# Altium footprint library Power_Board_Parts_Library.PcbLib: 12 footprints
Each footprint in its own frame and in the unit in brackets; x right, y up, seen from the top. Pads: shape width x height; smd on the part's side, far side on the other; paste and mask are expansions set on the pad; w line width, h text height; cw(c..) or ccw(c..) is an arc to the next point about the centre after c.
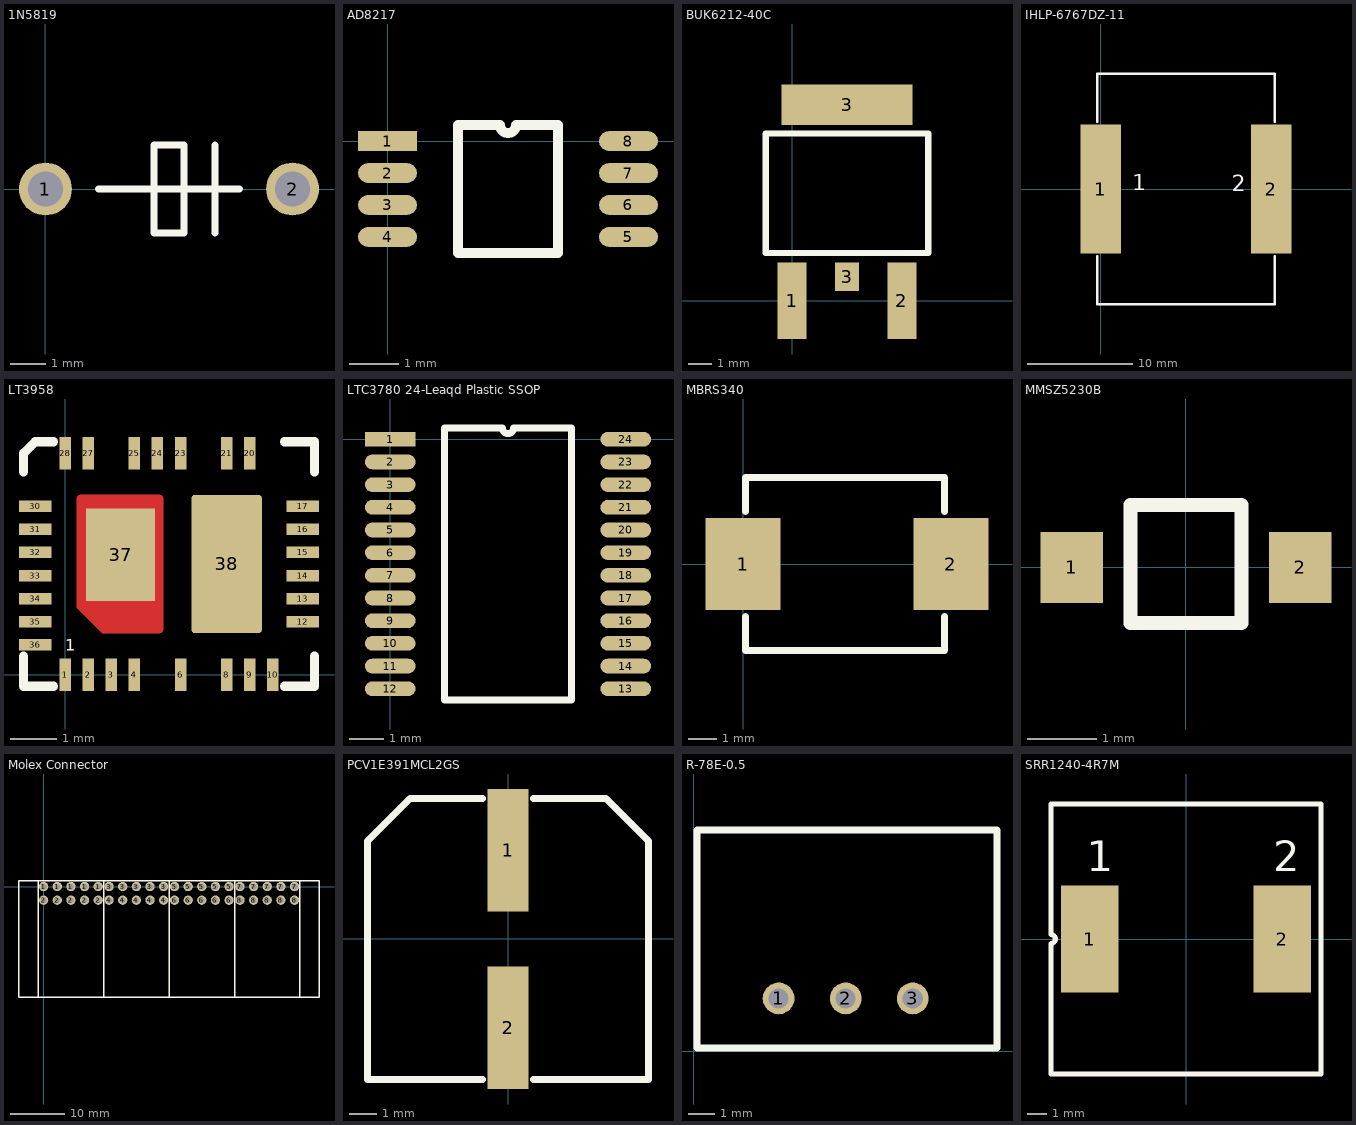
[diagram p0: the footprints below, top view; thin cyan lines are the x and y axes]

## 1N5819 [mm]
pads (2):
  round 1.5 hole 1: 1(0,0) 2(7,0)
Top Overlay:
  lines w0.2: 1.5,0 3.925,0 ; 3.075,0 5.5,0 ; 4.808,-1.25 4.808,1.25 ; 3.925,0 3.925,1.25 3.075,1.25 3.075,-1.25 3.925,-1.25 3.925,0

## AD8217 [mm]
pads (8):
  rect 1.2x0.4 smd: 1(0,0)
  oval 1.2x0.4 smd: 2(0,-0.65) 3(0,-1.3) 4(0,-1.95) 5(4.9,-1.95) 6(4.9,-1.3) 7(4.9,-0.65) 8(4.9,0)
Top Overlay:
  lines w0.2: 1.435,-2.275 3.465,-2.275 3.465,0.325 2.612,0.325 cw(c2.45,0.325) 2.288,0.325 1.435,0.325 1.435,-2.275

## BUK6212-40C [mm]
pads (4):
  rect 1.2x3.2 smd: 1(0,0) 2(4.6,0)
  rect 1x1.2 smd: 3(2.3,1)
  rect 5.5x1.7 smd: 3(2.3,8.2)
Top Overlay:
  lines w0.254: -1.1,2 5.7,2 5.7,7 -1.1,7 -1.1,2

## IHLP-6767DZ-11 [mm]
pads (2):
  rect 3.825x12.32 smd: 1(0,0) 2(16.25,0)
Top Overlay:
  lines w0.254: -0.33,-6.39 -0.33,-10.97 16.57,-10.97 16.57,-6.39 ; -0.33,6.39 -0.33,10.97 16.57,10.97 16.57,6.39
  text "1" at 3,-0.13 h1.52
  text "2" at 12.47,-0.2 h1.52

## LT3958 [mm]
pads (30):
  rect 0.25x0.7 smd mask+0.085: 1(0,0)
  rect 0.25x0.7 smd: 2(0.5,0) 3(1,0) 4(1.5,0) 6(2.5,0) 8(3.5,0) 9(4,0) 10(4.5,0) 20(4,4.8) 21(3.5,4.8) 23(2.5,4.8) 24(2,4.8) 25(1.5,4.8) 27(0.5,4.8) 28(0,4.8)
  rect 0.7x0.25 smd: 12(5.15,1.15) 13(5.15,1.65) 14(5.15,2.15) 15(5.15,2.65) 16(5.15,3.15) 17(5.15,3.65) 30(-0.65,3.65) 31(-0.65,3.15) 32(-0.65,2.65) 33(-0.65,2.15) 34(-0.65,1.65) 35(-0.65,1.15)
  rect 0.7x0.25 smd mask+0.085: 36(-0.65,0.65)
  rect 1.5x2 smd: 37(1.2,2.6)
  rrect10% 1.53x3 smd paste+0: 38(3.5,2.4)
Top Layer:
  region: 0.25,1.45 0.25,3.8 0.25,3.82 0.265,3.857 0.293,3.885 0.33,3.9 0.35,3.9 2.025,3.9 2.045,3.9 2.082,3.885 2.11,3.857 2.125,3.82 2.125,3.8 2.125,1 2.125,0.98 2.11,0.943 2.082,0.915 2.045,0.9 2.025,0.9 0.8,0.9
Top Overlay:
  lines w0.2: -0.9,0.4 -0.9,-0.25 -0.25,-0.25 ; -0.9,4.4 -0.9,4.8 -0.65,5.05 -0.25,5.05 ; 4.75,-0.25 5.4,-0.25 5.4,0.4 ; 4.75,5.05 5.4,5.05 5.4,4.4
  text "1" at 0,0.525 h0.25

## LTC3780 24-Leaqd Plastic SSOP [mm]
pads (24):
  rect 1.45x0.42 smd: 1(0,0)
  oval 1.45x0.42 smd: 2(0,-0.65) 3(0,-1.3) 4(0,-1.95) 5(0,-2.6) 6(0,-3.25) 7(0,-3.9) 8(0,-4.55) 9(0,-5.2) 10(0,-5.85) 11(0,-6.5) 12(0,-7.15) 13(6.75,-7.15) 14(6.75,-6.5) 15(6.75,-5.85) 16(6.75,-5.2) 17(6.75,-4.55) 18(6.75,-3.9) 19(6.75,-3.25) 20(6.75,-2.6) 21(6.75,-1.95) 22(6.75,-1.3) 23(6.75,-0.65) 24(6.75,0)
Top Overlay:
  lines w0.2: 1.56,-7.475 5.19,-7.475 5.19,0.325 3.537,0.325 cw(c3.375,0.325) 3.213,0.325 1.56,0.325 1.56,-7.475

## MBRS340 [mm]
pads (2):
  rect 2.6x3.2 smd: 1(0,0) 2(7.2,0)
Top Overlay:
  lines w0.254: 0.08,-1.83 0.08,-3 6.98,-3 6.98,-1.83 ; 0.08,1.83 0.08,3 6.98,3 6.98,1.83

## MMSZ5230B [mm]
pads (2):
  rect 0.9x1.025 smd: 1(-1.65,0) 2(1.65,0)
Top Overlay:
  lines w0.2: -0.8,-0.8 -0.8,0.15 -0.8,0.35 -0.8,0.75 -0.8,0.9 0.8,0.9 0.8,-0.8 -0.8,-0.8

## Molex Connector [mm]
pads (40):
  round 1.7 hole 1.02: 1(0,0) 1(2.5,0) 1(5,0) 1(7.5,0) 1(10,0) 2(0,-2.5) 2(2.5,-2.5) 2(5,-2.5) 2(7.5,-2.5) 2(10,-2.5) 3(12,0) 3(14.5,0) 3(17,0) 3(19.5,0) 3(22,0) 4(12,-2.5) 4(14.5,-2.5) 4(17,-2.5) 4(19.5,-2.5) 4(22,-2.5) 5(24,0) 5(26.5,0) 5(29,0) 5(31.5,0) 5(34,0) 6(24,-2.5) 6(26.5,-2.5) 6(29,-2.5) 6(31.5,-2.5) 6(34,-2.5) 7(36,0) 7(38.5,0) 7(41,0) 7(43.5,0) 7(46,0) 8(36,-2.5) 8(38.5,-2.5) 8(41,-2.5) 8(43.5,-2.5) 8(46,-2.5)
Top Overlay:
  lines w0.254: -1,-20.33 -1,1.09 ; 11,-20.32 11,1.09 ; 23,-20.33 23,1.09 ; 35,-20.33 35,1.09 ; 47,-20.33 47,1.09 ; -4.52,-20.33 -4.52,1.09 50.49,1.09 50.49,-20.33 -4.52,-20.33
3D body "459848932.stp": height 7.39, standoff -3.01, extent -4.93,-20.32 50.08,1.1

## PCV1E391MCL2GS [mm]
pads (2):
  rect 1.5x4.5 smd: 1(0,3.25) 2(0,-3.25)
Top Overlay:
  lines w0.254: -0.925,-5.15 -5.15,-5.15 -5.15,3.6 -3.6,5.15 -2.85,5.15 -0.925,5.15 ; 0.925,-5.15 5.15,-5.15 5.15,3.6 3.6,5.15 0.925,5.15

## R-78E-0.5 [mm]
pads (3):
  round 1.2 hole 0.762: 1(3.21,2) 2(5.75,2) 3(8.29,2)
Top Overlay:
  lines w0.254: 0.125,0.125 11.475,0.125 11.475,8.375 0.125,8.375 0.125,0.125

## SRR1240-4R7M [mm]
pads (2):
  rect 2.9x5.4 smd: 1(-4.85,0) 2(4.85,0)
Top Overlay:
  lines w0.254: -6.8,-0.3 -6.8,-3.4 -6.8,-6.8 6.8,-6.8 6.8,6.8 -6.8,6.8 -6.8,3.4 -6.8,0.3 ; -6.8,-0.224 ccw(c-6.8,0) -6.8,0.224
  text "1" at -5,3.4 h1.52
  text "1" at -5,3.4 h1.52
  text "2" at 4.4,3.4 h1.52